# Altium footprint library PcbLib3.PcbLib: 3 footprints
Each footprint in its own frame and in the unit in brackets; x right, y up, seen from the top. Pads: shape width x height; smd on the part's side, far side on the other; paste and mask are expansions set on the pad; w line width, h text height; cw(c..) or ccw(c..) is an arc to the next point about the centre after c.
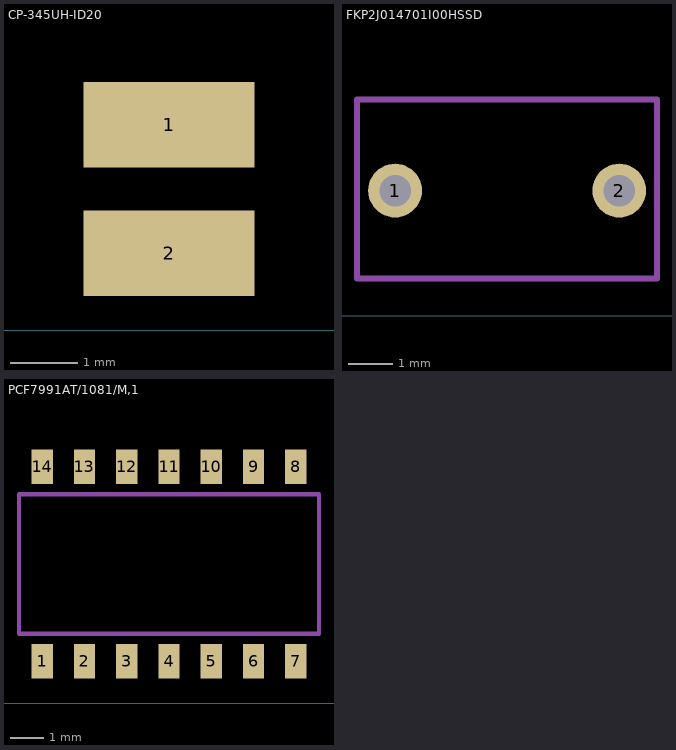
[diagram p0: the footprints below, top view; thin cyan lines are the x and y axes]

## CP-345UH-ID20 [mil]
pads (2):
  rect 100x50 smd: 1(100,120) 2(100,45)

## FKP2J014701I00HSSD [mm]
pads (2):
  round 1.2 hole 0.7: 1(2.286,2.794) 2(7.286,2.794)
Mechanical 1:
  lines w0.127: 1.436,0.834 8.128,0.834 8.128,4.826 1.436,4.826 1.436,0.834

## PCF7991AT/1081/M,1 [mil]
pads (14):
  rect 25x41 smd: 1(50,50) 2(100,50) 3(150,50) 4(200,50) 5(250,50) 6(300,50) 7(350,50) 8(350,280) 9(300,280) 10(250,280) 11(200,280) 12(150,280) 13(100,280) 14(50,280)
Mechanical 1:
  lines w5: 22.5,82.5 377.5,82.5 377.5,247.5 22.5,247.5 22.5,82.5